# EAGLE library part CD4517B (library GameCube)
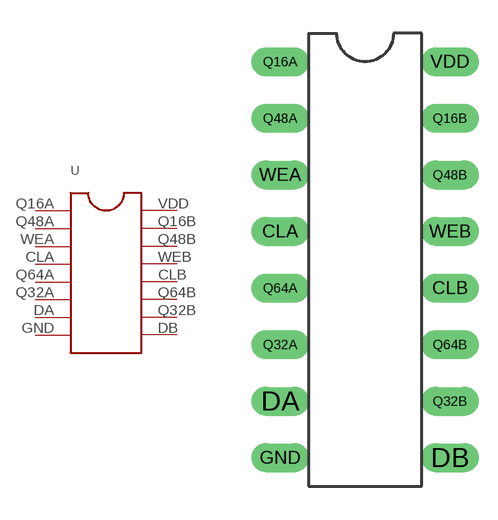
[diagram p3: symbol with the pads of CD4517B; footprint CD4517B]

Designator prefix -

## CD4517B  [CD4517B]
CLA  P$4
CLB  P$12
DA  P$7
DB  P$9
GND  P$8
Q16A  P$1
Q16B  P$15
Q32A  P$6
Q32B  P$10
Q48A  P$2
Q48B  P$14
Q64A  P$5
Q64B  P$11
VDD  P$16
WEA  P$3
WEB  P$13

## Footprint CD4517B (pad centres in mm)
drill 0.8 long: CLA -3.81,2.54; CLB 3.81,0; DA -3.81,-5.08; DB 3.81,-7.62; GND -3.81,-7.62; Q16A -3.81,10.16; Q16B 3.81,7.62; Q32A -3.81,-2.54; Q32B 3.81,-5.08; Q48A -3.81,7.62; Q48B 3.81,5.08; Q64A -3.81,0; Q64B 3.81,-2.54; VDD 3.81,10.16; WEA -3.81,5.08; WEB 3.81,2.54